# Altium schematic symbol library rocket_mcu.SchLib: 33 symbols
Pins are listed as number, name and electrical type; pins without a type are passive.

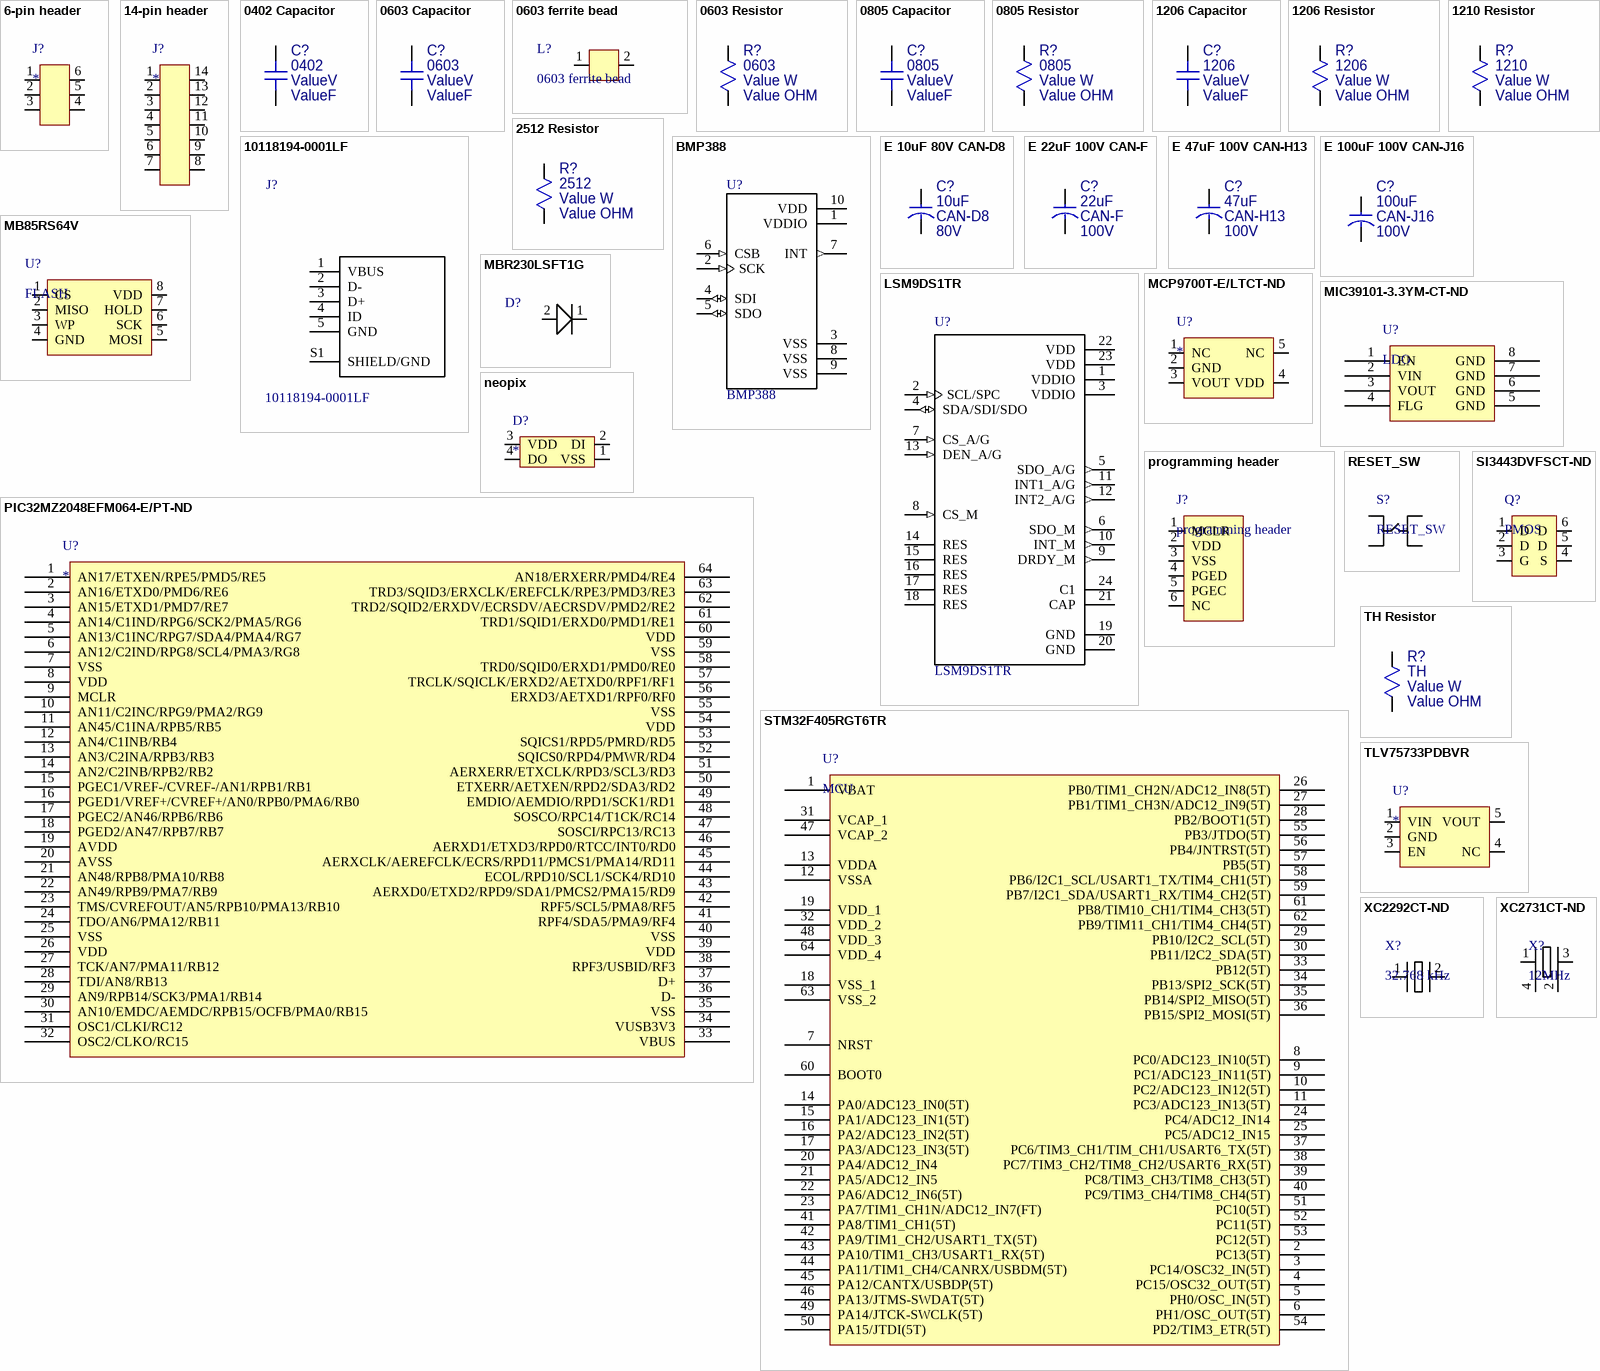
[diagram p0: symbols 6-pin header to XC2731CT-ND]

## 6-pin header
designator J?
footprint 6-pin header
pins: 1, 2, 3, 4, 5, 6

## 14-pin header
designator J?
footprint 14-pin header
pins: 1, 2, 3, 4, 5, 6, 7, 8, 9, 10, 11, 12, 13, 14

## 0402 Capacitor
designator C?, comment value ValueF  Voltage: ValueV  Size: 0402  (hidden comment: Capacitor)
Default 0402 capacitor; Digikey part #: *; Manufacturer: *
footprint 0402C (REFLOW)
pins: 1, 2

## 0603 Capacitor
designator C?, comment value ValueF  Voltage: ValueV  Size: 0603  (hidden comment: Capacitor)
Default 0603 capacitor; Digikey part #: *; Manufacturer: *
footprint 0603C (reflow)
pins: 1, 2

## 0603 ferrite bead
designator L?
footprint 0603R (reflow)
pins: 1, 2

## 0603 Resistor
designator R?, comment value Value OHM  Power: Value W  Size: 0603  (hidden comment: Resistor)
Default 0603 resistor; Digikey part #: *; Manufacturer: *
footprint 0603R (reflow)
pins: 1, 2

## 0805 Capacitor
designator C?, comment value ValueF  Voltage: ValueV  Size: 0805  (hidden comment: Capacitor)
Default 0805 capacitor; Digikey part #: *; Manufacturer: *
footprint 0805C (reflow)
pins: 1, 2

## 0805 Resistor
designator R?, comment value Value OHM  Power: Value W  Size: 0805  (hidden comment: Resistor)
Default 0805 resistor; Digikey part #: *; Manufacturer: *
footprint 0805R (reflow)
pins: 1, 2

## 1206 Capacitor
designator C?, comment value ValueF  Voltage: ValueV  Size: 1206  (hidden comment: Capacitor)
Default 1206 capacitor; Digikey part #: *; Manufacturer: *
footprint 1206C (reflow)
pins: 1, 2

## 1206 Resistor
designator R?, comment value Value OHM  Power: Value W  Size: 1206  (hidden comment: Resistor)
Default 1206 resistor; Digikey part #: *; Manufacturer: *
footprint 1206R (reflow)
pins: 1, 2

## 1210 Resistor
designator R?, comment value Value OHM  Power: Value W  Size: 1210  (hidden comment: Resistor)
Default 1210 resistor; Digikey part #: *; Manufacturer: *
footprint 1210R (reflow)
pins: 1, 2

## 2512 Resistor
designator R?, comment value Value OHM  Power: Value W  Size: 2512  (hidden comment: Resistor)
Default 2512 resistor; Digikey part #: *; Manufacturer: *
footprint 2512R (reflow)
pins: 1, 2

## 10118194-0001LF
designator J?
USB - micro B USB 2.0 Receptacle Connector 5 Position Surface Mount, Right Angle; Through Hole; MF: Amphenol ICC; SnapEDA_Link: https://www.snapeda.com/parts/10118194-0001LF/Amphenol%20FCI/view-part/1413308/?ref=snap; Digi-Key_Part_Number: 609-4618-1-ND; Digi-Key_Purchase_URL: https://www.digikey.com/product-detail/en/amphenol-icc-fci/10118194-0001LF/609-4618-1-ND/2785382?utm_source=snapeda&utm_medium=aggregator&utm_campaign=symbol; MP: 10118194-0001LF; Package: None; Value: *; ComponentLink1Description: 10118194-0001LF; ComponentLink1URL: https://www.digikey.com/product-detail/en/amphenol-icc-fci/10118194-0001LF/609-4618-1-ND/2785382
footprint *AMPHENOL_10118194-0001LF_10118194-0001LF(Primary)
pins: 1 VBUS, 2 D-, 3 D+, 4 ID, 5 GND, S1 SHIELD/GND

## BMP388
designator U?
Pressure Sensor 4.35PSI ~ 18.13PSI _30kPa ~ 125kPa_ Absolute 10-WFLGA; MF: Bosch Sensortec; Digi-Key_Purchase_URL: https://www.digikey.com/product-detail/en/bosch-sensortec/BMP388/828-1079-1-ND/8322640?utm_source=snapeda&utm_medium=aggregator&utm_campaign=symbol; Digi-Key_Part_Number: 828-1079-1-ND; Package: WFLGA-10 Bosch Tools; SnapEDA_Link: https://www.snapeda.com/parts/BMP388/Bosch%20Sensortec/view-part/2747857/?ref=snap; MP: BMP388; Value: *
footprint *PQFN50P200X200X80-10N
pins: 1 VDDIO (power), 2 SCK (in), 3 VSS (power), 4 SDI (io), 5 SDO (io), 6 CSB (in), 7 INT (out), 8 VSS (power), 9 VSS (power), 10 VDD (power)

## E 10uF 80V CAN-D8
designator C?  value 10uF  VOLTAGE: 80V  SIZE: CAN-D8  (hidden comment: E 10uF 80V CAN-D8)
ELETROLYTIC CAP, 10uF, 80V, FK, CAN-D8, 20%; Manufacturer: Panasonic; VTI Standard Part: Yes; Component Style: SMT; DATE: 02/07/2019; Digikey part #: PCE3827CT-ND
footprint CAPAE7866X80M-D8 (Aluminum Electrolytic Capacitor, Body 6.60x6.60x8.00mm, IPC Low Density)
pins: 1, 2

## E 22uF 100V CAN-F
designator C?  value 22uF  VOLTAGE: 100V  SIZE: CAN-F  (hidden comment: E 22uF 100V CAN-F)
ELETROLYTIC CAP, 22uF, 100V, FK, CAN-F, 20%; Manufacturer: Panasonic; VTI Standard Part: Yes; Component Style: SMT; DATE: 02/07/2019; Digikey part #: PCE3845CT-ND
footprint CAPAE10083X105M-F (Aluminum Electrolytic Capacitor, Body 8.30x8.30x10.50mm, IPC Low Density)
pins: 1, 2

## E 47uF 100V CAN-H13
designator C?  value 47uF  VOLTAGE: 100V  SIZE: CAN-H13  (hidden comment: E 47uF 100V CAN-H13)
ELETROLYTIC CAP, 47uF, 100V, FK, CAN-H13, 20%; Manufacturer: Panasonic; VTI Standard Part: Yes; Component Style: SMT; DATE: 02/07/2019; Digikey part #: PCE3497CT-ND
footprint CAPAE150135X140M-h13 (Aluminum Electrolytic Capacitor, Body 13.50x13.50x14.00mm, IPC Low Density)
pins: 1, 2

## E 100uF 100V CAN-J16
designator C?  value 100uF  VOLTAGE: 100V  SIZE: CAN-J16  (hidden comment: E 100uF 100V CAN-J16)
ELETROLYTIC CAP, 100uF, 100V, FK, CAN-J16, 20%; Manufacturer: Panasonic; VTI Standard Part: Yes; Component Style: SMT; DATE: 02/07/2019; Digikey part #: PCE3504CT-ND
footprint CAPAE190170X170M-J16 (Aluminum Electrolytic Capacitor, Body 17.00x17.00x17.00mm, IPC Low Density)
pins: 1, 2

## LSM9DS1TR
designator U?
/ Accelerometer, Gyroscope, Magnetometer, Temperature, 9 Axis Sensor I虏C, SPI Output /; MF: STMicroelectronics; MP: LSM9DS1TR; Package: TFLGA-24 STMicroelectronics; Digi-Key_Purchase_URL: https://www.digikey.com/product-detail/en/stmicroelectronics/LSM9DS1TR/497-14946-1-ND/4988079?utm_source=snapeda&utm_medium=aggregator&utm_campaign=symbol; SnapEDA_Link: https://www.snapeda.com/parts/LSM9DS1TR/STMicroelectronics/view-part/106273/?ref=snap; Digi-Key_Part_Number: 497-14946-1-ND; Value: *
footprint *PQFN43P300X350X102-24N
pins: 1 VDDIO (power), 2 SCL/SPC (in), 3 VDDIO (power), 4 SDA/SDI/SDO (io), 5 SDO_A/G (out), 6 SDO_M (out), 7 CS_A/G (in), 8 CS_M (in), 9 DRDY_M (out), 10 INT_M (out), 11 INT1_A/G (out), 12 INT2_A/G (out), 13 DEN_A/G (in), 14 RES, 15 RES, 16 RES, 17 RES, 18 RES, 19 GND (power), 20 GND (power), 21 CAP, 22 VDD (power), 23 VDD (power), 24 C1

## MB85RS64V
designator U?, comment FLASH
ComponentLink1Description: MB85RS64V; ComponentLink1URL: https://www.digikey.com/product-detail/en/fujitsu-electronics-america-inc/MB85RS64VPNF-G-JNERE1/865-1260-1-ND/4022676
footprint 8-SOIC (SOIC, 8-Leads, Body 4.91x3.90mm, Pitch 1.27mm, IPC Medium Density)
pins: 1 CS, 2 MISO, 3 WP, 4 GND, 5 MOSI, 6 SCK, 7 HOLD, 8 VDD

## MBR230LSFT1G
designator D?
Schottky 30V 2A; ComponentLink1Description: MBR230LSFT1GOSCT-ND; ComponentLink1URL: https://www.digikey.com/product-detail/en/on-semiconductor/MBR230LSFT1G/MBR230LSFT1GOSCT-ND/1967064
footprint MBR230LSFT1G (Molded Diode, 2-Leads, Body 2.70x1.65mm, IPC Medium Density)
pins: 1, 2

## MCP9700T-E/LTCT-ND
designator U?
Temp sens; ComponentLink1Description: MCP9700T-E/LTCT-ND; ComponentLink1URL: https://www.digikey.com/product-detail/en/microchip-technology/MCP9700T-E-LT/MCP9700T-E-LTCT-ND/736010
footprint MCP9700T-E/LT (SOT23,)
pins: 1 NC, 2 GND, 3 VOUT, 4 VDD, 5 NC

## MIC39101-3.3YM-CT-ND
designator U?, comment LDO
ComponentLink1Description: MIC39101-3.3YM-CT-ND; ComponentLink1URL: https://www.digikey.com/product-detail/en/microchip-technology/MIC39101-3-3YM-TR/MIC39101-3-3YM-CT-ND/9168923
footprint 8-SOIC (SOIC, 8-Leads, Body 4.91x3.90mm, Pitch 1.27mm, IPC Medium Density)
pins: 1 EN, 2 VIN, 3 VOUT, 4 FLG, 5 GND, 6 GND, 7 GND, 8 GND

## neopix
designator D?
footprint neopix
pins: 1 VSS, 2 DI, 3 VDD, 4 DO

## PIC32MZ2048EFM064-E/PT-ND
designator U?
ComponentLink1Description: PIC32MZ2048EFM064-E/PT-ND; ComponentLink1URL: https://www.digikey.com/product-detail/en/microchip-technology/PIC32MZ2048EFM064-E-PT/PIC32MZ2048EFM064-E-PT-ND/5323570
footprint TQFP-64 (TSQFP, 64-Leads, Body 10.00x10.00mm, Pitch 0.50mm, IPC Low Density)
pins: 1 AN17/ETXEN/RPE5/PMD5/RE5, 2 AN16/ETXD0/PMD6/RE6, 3 AN15/ETXD1/PMD7/RE7, 4 AN14/C1IND/RPG6/SCK2/PMA5/RG6, 5 AN13/C1INC/RPG7/SDA4/PMA4/RG7, 6 AN12/C2IND/RPG8/SCL4/PMA3/RG8, 7 VSS, 8 VDD, 9 MCLR, 10 AN11/C2INC/RPG9/PMA2/RG9, 11 AN45/C1INA/RPB5/RB5, 12 AN4/C1INB/RB4, 13 AN3/C2INA/RPB3/RB3, 14 AN2/C2INB/RPB2/RB2, 15 PGEC1/VREF-/CVREF-/AN1/RPB1/RB1, 16 PGED1/VREF+/CVREF+/AN0/RPB0/PMA6/RB0, 17 PGEC2/AN46/RPB6/RB6, 18 PGED2/AN47/RPB7/RB7, 19 AVDD, 20 AVSS, 21 AN48/RPB8/PMA10/RB8 , 22 AN49/RPB9/PMA7/RB9, 23 TMS/CVREFOUT/AN5/RPB10/PMA13/RB10, 24 TDO/AN6/PMA12/RB11 , 25 VSS, 26 VDD, 27 TCK/AN7/PMA11/RB12, 28 TDI/AN8/RB13, 29 AN9/RPB14/SCK3/PMA1/RB14, 30 AN10/EMDC/AEMDC/RPB15/OCFB/PMA0/RB15, 31 OSC1/CLKI/RC12, 32 OSC2/CLKO/RC15, 33 VBUS, 34 VUSB3V3, 35 VSS, 36 D-, 37 D+, 38 RPF3/USBID/RF3, 39 VDD, 40 VSS, 41 RPF4/SDA5/PMA9/RF4, 42 RPF5/SCL5/PMA8/RF5, 43 AERXD0/ETXD2/RPD9/SDA1/PMCS2/PMA15/RD9, 44 ECOL/RPD10/SCL1/SCK4/RD10, 45 AERXCLK/AEREFCLK/ECRS/RPD11/PMCS1/PMA14/RD11, 46 AERXD1/ETXD3/RPD0/RTCC/INT0/RD0, 47 SOSCI/RPC13/RC13, 48 SOSCO/RPC14/T1CK/RC14, 49 EMDIO/AEMDIO/RPD1/SCK1/RD1, 50 ETXERR/AETXEN/RPD2/SDA3/RD2, 51 AERXERR/ETXCLK/RPD3/SCL3/RD3, 52 SQICS0/RPD4/PMWR/RD4, 53 SQICS1/RPD5/PMRD/RD5, 54 VDD, 55 VSS, 56 ERXD3/AETXD1/RPF0/RF0, 57 TRCLK/SQICLK/ERXD2/AETXD0/RPF1/RF1, 58 TRD0/SQID0/ERXD1/PMD0/RE0, 59 VSS, 60 VDD, 61 TRD1/SQID1/ERXD0/PMD1/RE1, 62  TRD2/SQID2/ERXDV/ECRSDV/AECRSDV/PMD2/RE2, 63 TRD3/SQID3/ERXCLK/EREFCLK/RPE3/PMD3/RE3, 64 AN18/ERXERR/PMD4/RE4

## programming header
designator J?
footprint programming header
pins: 1 MCLR, 2 VDD, 3 VSS, 4 PGED, 5 PGEC, 6 NC

## RESET_SW
designator S?
ComponentLink1Description: 450-1650-ND; ComponentLink1URL: https://www.digikey.com/product-detail/en/te-connectivity-alcoswitch-switches/1825910-6/450-1650-ND/1632536
footprint RST_SW
pins: 1, 2, 3, 4

## SI3443DVFSCT-ND
designator Q?, comment PMOS
ComponentLink1Description: SI3443DVFSCT-ND; ComponentLink1URL: https://www.digikey.com/product-detail/en/on-semiconductor/SI3443DV/SI3443DVFSCT-ND/1627060
footprint SI3443DVFSCT-ND (SOT23)
pins: 1 D, 2 D, 3 G, 4 S, 5 D, 6 D

## STM32F405RGT6TR
designator U?, comment MCU
64LQFP; ComponentLink1Description: STM32F405RGT6TR; ComponentLink1URL: https://www.digikey.com/product-detail/en/stmicroelectronics/STM32F405RGT6TR/497-17432-1-ND/8024114
footprint stm32f405 (TSQFP, 64-Leads, Body 10.00x10.00mm, Pitch 0.50mm, IPC Low Density)
pins: 1 VBAT, 2 PC13(5T), 3 PC14/OSC32_IN(5T), 4 PC15/OSC32_OUT(5T), 5 PH0/OSC_IN(5T), 6 PH1/OSC_OUT(5T), 7 NRST, 8 PC0/ADC123_IN10(5T), 9 PC1/ADC123_IN11(5T), 10 PC2/ADC123_IN12(5T), 11 PC3/ADC123_IN13(5T), 12 VSSA, 13 VDDA, 14 PA0/ADC123_IN0(5T), 15 PA1/ADC123_IN1(5T), 16 PA2/ADC123_IN2(5T), 17 PA3/ADC123_IN3(5T), 18 VSS_1, 19 VDD_1, 20 PA4/ADC12_IN4, 21 PA5/ADC12_IN5, 22 PA6/ADC12_IN6(5T), 23 PA7/TIM1_CH1N/ADC12_IN7(FT), 24 PC4/ADC12_IN14, 25 PC5/ADC12_IN15, 26 PB0/TIM1_CH2N/ADC12_IN8(5T), 27 PB1/TIM1_CH3N/ADC12_IN9(5T), 28 PB2/BOOT1(5T), 29 PB10/I2C2_SCL(5T), 30 PB11/I2C2_SDA(5T), 31 VCAP_1, 32 VDD_2, 33 PB12(5T), 34 PB13/SPI2_SCK(5T), 35 PB14/SPI2_MISO(5T), 36 PB15/SPI2_MOSI(5T), 37 PC6/TIM3_CH1/TIM_CH1/USART6_TX(5T), 38 PC7/TIM3_CH2/TIM8_CH2/USART6_RX(5T), 39 PC8/TIM3_CH3/TIM8_CH3(5T), 40 PC9/TIM3_CH4/TIM8_CH4(5T), 41 PA8/TIM1_CH1(5T), 42 PA9/TIM1_CH2/USART1_TX(5T), 43 PA10/TIM1_CH3/USART1_RX(5T), 44 PA11/TIM1_CH4/CANRX/USBDM(5T), 45 PA12/CANTX/USBDP(5T), 46 PA13/JTMS-SWDAT(5T), 47 VCAP_2, 48 VDD_3, 49 PA14/JTCK-SWCLK(5T), 50 PA15/JTDI(5T), 51 PC10(5T), 52 PC11(5T), 53 PC12(5T), 54 PD2/TIM3_ETR(5T), 55 PB3/JTDO(5T), 56 PB4/JNTRST(5T), 57 PB5(5T), 58 PB6/I2C1_SCL/USART1_TX/TIM4_CH1(5T), 59 PB7/I2C1_SDA/USART1_RX/TIM4_CH2(5T), 60 BOOT0, 61 PB8/TIM10_CH1/TIM4_CH3(5T), 62 PB9/TIM11_CH1/TIM4_CH4(5T), 63 VSS_2, 64 VDD_4

## TH Resistor
designator R?, comment value Value OHM  Power: Value W  Size: TH  (hidden comment: Resistor)
Default through-hole resistor; Digikey part #: *; Manufacturer: *
footprint TH_RESISTOR
pins: 1, 2

## TLV75733PDBVR
designator U?
ComponentLink1Description: TLV75733PDBVR; ComponentLink1URL: https://www.digikey.com/product-detail/en/texas-instruments/TLV75733PDBVR/296-50414-1-ND/9685553
footprint SOT23-5N (SOT23, 5-Leads, Body 2.90x2.80mm, Pitch 0.95mm, IPC Medium Density)
pins: 1 VIN, 2 GND, 3 EN, 4 NC, 5 VOUT

## XC2292CT-ND
designator X?, comment 32.768 kHz
ComponentLink1Description: XC2292CT-ND; ComponentLink1URL: https://www.digikey.com/product-detail/en/ecs-inc/ECX-327-CDX-1293/XC2292CT-ND/6821660
footprint XC2292CT-ND
pins: 1, 2

## XC2731CT-ND
designator X?, comment 12MHz
ComponentLink1Description: XC2731CT-ND; ComponentLink1URL: https://www.digikey.com/product-detail/en/ecs-inc/ECS-120-20-30B-AGL-TR/XC2731CT-ND/8023666
footprint XC2731CT-ND
pins: 1, 2, 3, 4